# EAGLE library part MCP6074 (library MCP6074)
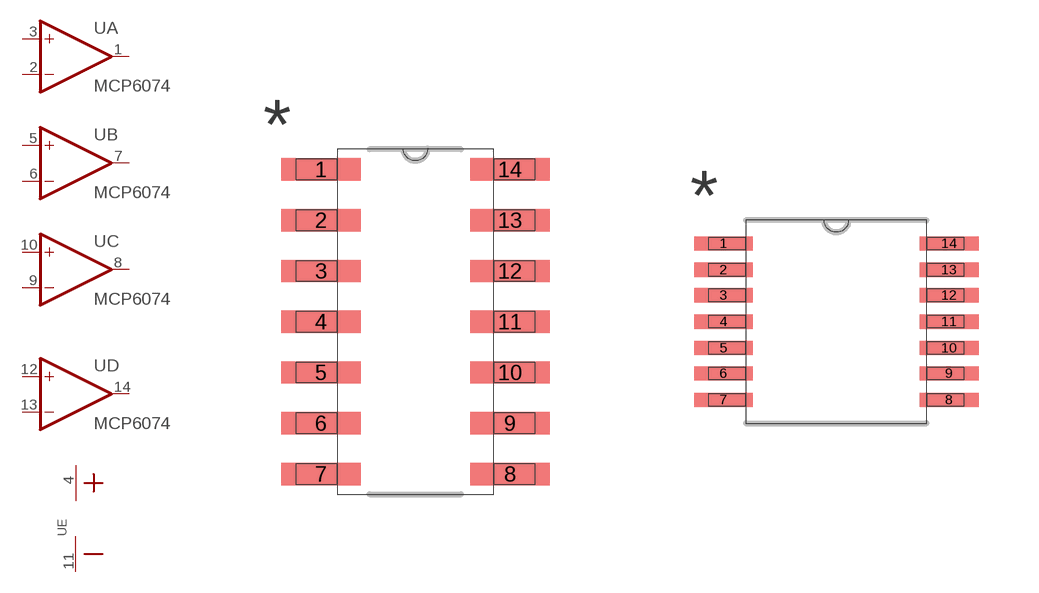
[diagram p2: symbol with the pads of SOIC14-N_MC; footprints SOIC14-N_MC, TSSOP14_MC]

Designator prefix U; gates A=OPAMP B=OPAMP C=OPAMP D=OPAMP E=PWR+-

## MCP6074/SL  [SOIC14-N_MC]
1  A:OUT  out
2  A:-IN  in
3  A:+IN  in
4  E:V+  pwr
5  B:+IN  in
6  B:-IN  in
7  B:OUT  out
8  C:OUT  out
9  C:-IN  in
10  C:+IN  in
11  E:V-  pwr
12  D:+IN  in
13  D:-IN  in
14  D:OUT  out

## MCP6074/ST  [TSSOP14_MC]
Pads as for SOIC14-N_MC

## Footprint SOIC14-N_MC (pad centres in mm)
smd 1.981 x 0.559: 1 -2.362,3.81; 2 -2.362,2.54; 3 -2.362,1.27; 4 -2.362,0; 5 -2.362,-1.27; 6 -2.362,-2.54; 7 -2.362,-3.81; 8 2.362,-3.81; 9 2.362,-2.54; 10 2.362,-1.27; 11 2.362,0; 12 2.362,1.27; 13 2.362,2.54; 14 2.362,3.81

## Footprint TSSOP14_MC (pad centres in mm)
smd 1.473 x 0.356: 1 -2.819,1.956; 2 -2.819,1.295; 3 -2.819,0.66; 4 -2.819,0; 5 -2.819,-0.66; 6 -2.819,-1.295; 7 -2.819,-1.956; 8 2.819,-1.956; 9 2.819,-1.295; 10 2.819,-0.66; 11 2.819,0; 12 2.819,0.66; 13 2.819,1.295; 14 2.819,1.956